# EAGLE library part SOIC127P610X320-8N (library SOIC127P610X320-8N)
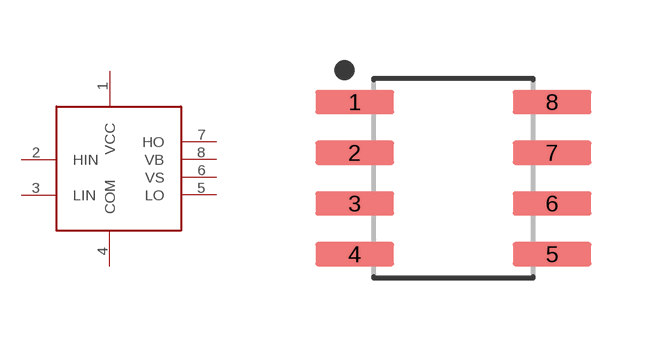
[diagram p0: symbol with the pads of SOIC127P599X175-8N; footprint SOIC127P599X175-8N]

Designator prefix U

## SOIC127P610X320-8NSOIC8  [SOIC127P599X175-8N]
1  VCC
2  HIN
3  LIN
4  COM
5  LO
6  VS
7  HO
8  VB

## Footprint SOIC127P599X175-8N (pad centres in mm)
8-SOIC, 1.27 mm pitch, 6.00 mm span, 4.91 X 3.90 X 1.75 mm body 8-pin SOIC package with 1.27 mm pitch, 6.00 mm span with body size 4.91 X 3.90 X 1.75 mm
smd 1.965 x 0.602: 1 -2.47,1.905; 2 -2.47,0.635; 3 -2.47,-0.635; 4 -2.47,-1.905; 5 2.47,-1.905; 6 2.47,-0.635; 7 2.47,0.635; 8 2.47,1.905